# Altium footprint library BGA (1.5mm Pitch, Square1).PcbLib: 20 footprints (part 2 of 2)
Each footprint in its own frame and in the unit in brackets; x right, y up, seen from the top. Pads: shape width x height; smd on the part's side, far side on the other; paste and mask are expansions set on the pad; w line width, h text height; cw(c..) or ccw(c..) is an arc to the next point about the centre after c.
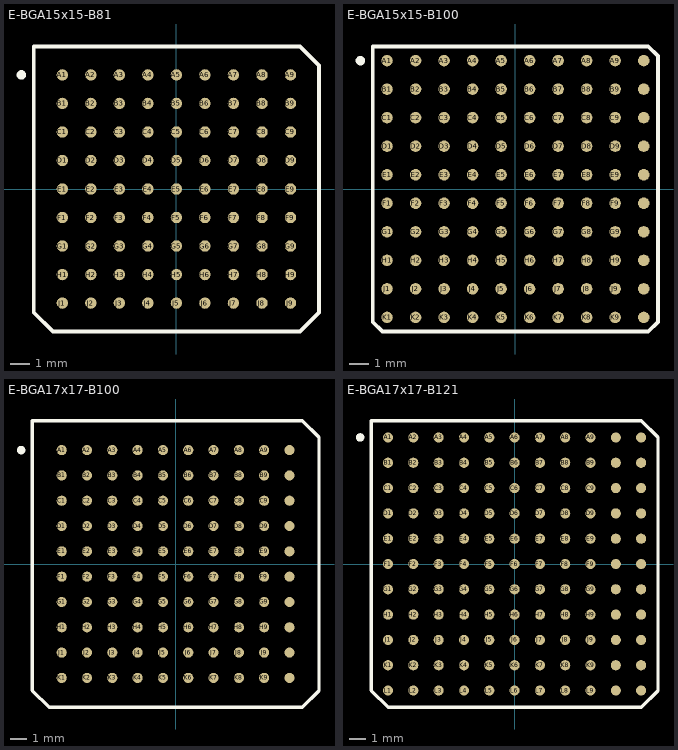
[diagram p1: the footprints below, top view; thin cyan lines are the x and y axes]

## E-BGA15x15-B81 [mm] "BGA; 81 Balls; Body 15 x 15 mm; Pitch 1.5 mm"
height 3.5
pads (81):
  round 0.6 smd: A1(-6,6) A2(-4.5,6) A3(-3,6) A4(-1.5,6) A5(0,6) A6(1.5,6) A7(3,6) A8(4.5,6) A9(6,6) B1(-6,4.5) B2(-4.5,4.5) B3(-3,4.5) B4(-1.5,4.5) B5(0,4.5) B6(1.5,4.5) B7(3,4.5) B8(4.5,4.5) B9(6,4.5) C1(-6,3) C2(-4.5,3) C3(-3,3) C4(-1.5,3) C5(0,3) C6(1.5,3) C7(3,3) C8(4.5,3) C9(6,3) D1(-6,1.5) D2(-4.5,1.5) D3(-3,1.5) D4(-1.5,1.5) D5(0,1.5) D6(1.5,1.5) D7(3,1.5) D8(4.5,1.5) D9(6,1.5) E1(-6,0) E2(-4.5,0) E3(-3,0) E4(-1.5,0) E5(0,0) E6(1.5,0) E7(3,0) E8(4.5,0) E9(6,0) F1(-6,-1.5) F2(-4.5,-1.5) F3(-3,-1.5) F4(-1.5,-1.5) F5(0,-1.5) F6(1.5,-1.5) F7(3,-1.5) F8(4.5,-1.5) F9(6,-1.5) G1(-6,-3) G2(-4.5,-3) G3(-3,-3) G4(-1.5,-3) G5(0,-3) G6(1.5,-3) G7(3,-3) G8(4.5,-3) G9(6,-3) H1(-6,-4.5) H2(-4.5,-4.5) H3(-3,-4.5) H4(-1.5,-4.5) H5(0,-4.5) H6(1.5,-4.5) H7(3,-4.5) H8(4.5,-4.5) H9(6,-4.5) J1(-6,-6) J2(-4.5,-6) J3(-3,-6) J4(-1.5,-6) J5(0,-6) J6(1.5,-6) J7(3,-6) J8(4.5,-6) J9(6,-6)
Top Overlay:
  circle w0.25: c-8.155,6 r0.125
  lines w0.2: -7.5,-6.5 -7.5,7.5 6.5,7.5 7.5,6.5 7.5,-6.5 6.5,-7.5 -6.5,-7.5 -7.5,-6.5

## E-BGA15x15-B100 [mm] "BGA; 100 Balls; Body 15 x 15 mm; Pitch 1.5 mm"
height 6
pads (100):
  round 0.6 smd: A1(-6.75,6.75) A2(-5.25,6.75) A3(-3.75,6.75) A4(-2.25,6.75) A5(-0.75,6.75) A6(0.75,6.75) A7(2.25,6.75) A8(3.75,6.75) A9(5.25,6.75) A10(6.75,6.75) B1(-6.75,5.25) B2(-5.25,5.25) B3(-3.75,5.25) B4(-2.25,5.25) B5(-0.75,5.25) B6(0.75,5.25) B7(2.25,5.25) B8(3.75,5.25) B9(5.25,5.25) B10(6.75,5.25) C1(-6.75,3.75) C2(-5.25,3.75) C3(-3.75,3.75) C4(-2.25,3.75) C5(-0.75,3.75) C6(0.75,3.75) C7(2.25,3.75) C8(3.75,3.75) C9(5.25,3.75) C10(6.75,3.75) D1(-6.75,2.25) D2(-5.25,2.25) D3(-3.75,2.25) D4(-2.25,2.25) D5(-0.75,2.25) D6(0.75,2.25) D7(2.25,2.25) D8(3.75,2.25) D9(5.25,2.25) D10(6.75,2.25) E1(-6.75,0.75) E2(-5.25,0.75) E3(-3.75,0.75) E4(-2.25,0.75) E5(-0.75,0.75) E6(0.75,0.75) E7(2.25,0.75) E8(3.75,0.75) E9(5.25,0.75) E10(6.75,0.75) F1(-6.75,-0.75) F2(-5.25,-0.75) F3(-3.75,-0.75) F4(-2.25,-0.75) F5(-0.75,-0.75) F6(0.75,-0.75) F7(2.25,-0.75) F8(3.75,-0.75) F9(5.25,-0.75) F10(6.75,-0.75) G1(-6.75,-2.25) G2(-5.25,-2.25) G3(-3.75,-2.25) G4(-2.25,-2.25) G5(-0.75,-2.25) G6(0.75,-2.25) G7(2.25,-2.25) G8(3.75,-2.25) G9(5.25,-2.25) G10(6.75,-2.25) H1(-6.75,-3.75) H2(-5.25,-3.75) H3(-3.75,-3.75) H4(-2.25,-3.75) H5(-0.75,-3.75) H6(0.75,-3.75) H7(2.25,-3.75) H8(3.75,-3.75) H9(5.25,-3.75) H10(6.75,-3.75) J1(-6.75,-5.25) J2(-5.25,-5.25) J3(-3.75,-5.25) J4(-2.25,-5.25) J5(-0.75,-5.25) J6(0.75,-5.25) J7(2.25,-5.25) J8(3.75,-5.25) J9(5.25,-5.25) J10(6.75,-5.25) K1(-6.75,-6.75) K2(-5.25,-6.75) K3(-3.75,-6.75) K4(-2.25,-6.75) K5(-0.75,-6.75) K6(0.75,-6.75) K7(2.25,-6.75) K8(3.75,-6.75) K9(5.25,-6.75) K10(6.75,-6.75)
Top Overlay:
  circle w0.25: c-8.155,6.75 r0.125
  lines w0.2: -7.5,-6.99 -7.5,7.5 6.99,7.5 7.5,6.99 7.5,-6.99 6.99,-7.5 -6.99,-7.5 -7.5,-6.99

## E-BGA17x17-B100 [mm] "BGA; 100 Balls; Body 17 x 17 mm; Pitch 1.5 mm"
height 3.5
pads (100):
  round 0.6 smd: A1(-6.75,6.75) A2(-5.25,6.75) A3(-3.75,6.75) A4(-2.25,6.75) A5(-0.75,6.75) A6(0.75,6.75) A7(2.25,6.75) A8(3.75,6.75) A9(5.25,6.75) A10(6.75,6.75) B1(-6.75,5.25) B2(-5.25,5.25) B3(-3.75,5.25) B4(-2.25,5.25) B5(-0.75,5.25) B6(0.75,5.25) B7(2.25,5.25) B8(3.75,5.25) B9(5.25,5.25) B10(6.75,5.25) C1(-6.75,3.75) C2(-5.25,3.75) C3(-3.75,3.75) C4(-2.25,3.75) C5(-0.75,3.75) C6(0.75,3.75) C7(2.25,3.75) C8(3.75,3.75) C9(5.25,3.75) C10(6.75,3.75) D1(-6.75,2.25) D2(-5.25,2.25) D3(-3.75,2.25) D4(-2.25,2.25) D5(-0.75,2.25) D6(0.75,2.25) D7(2.25,2.25) D8(3.75,2.25) D9(5.25,2.25) D10(6.75,2.25) E1(-6.75,0.75) E2(-5.25,0.75) E3(-3.75,0.75) E4(-2.25,0.75) E5(-0.75,0.75) E6(0.75,0.75) E7(2.25,0.75) E8(3.75,0.75) E9(5.25,0.75) E10(6.75,0.75) F1(-6.75,-0.75) F2(-5.25,-0.75) F3(-3.75,-0.75) F4(-2.25,-0.75) F5(-0.75,-0.75) F6(0.75,-0.75) F7(2.25,-0.75) F8(3.75,-0.75) F9(5.25,-0.75) F10(6.75,-0.75) G1(-6.75,-2.25) G2(-5.25,-2.25) G3(-3.75,-2.25) G4(-2.25,-2.25) G5(-0.75,-2.25) G6(0.75,-2.25) G7(2.25,-2.25) G8(3.75,-2.25) G9(5.25,-2.25) G10(6.75,-2.25) H1(-6.75,-3.75) H2(-5.25,-3.75) H3(-3.75,-3.75) H4(-2.25,-3.75) H5(-0.75,-3.75) H6(0.75,-3.75) H7(2.25,-3.75) H8(3.75,-3.75) H9(5.25,-3.75) H10(6.75,-3.75) J1(-6.75,-5.25) J2(-5.25,-5.25) J3(-3.75,-5.25) J4(-2.25,-5.25) J5(-0.75,-5.25) J6(0.75,-5.25) J7(2.25,-5.25) J8(3.75,-5.25) J9(5.25,-5.25) J10(6.75,-5.25) K1(-6.75,-6.75) K2(-5.25,-6.75) K3(-3.75,-6.75) K4(-2.25,-6.75) K5(-0.75,-6.75) K6(0.75,-6.75) K7(2.25,-6.75) K8(3.75,-6.75) K9(5.25,-6.75) K10(6.75,-6.75)
Top Overlay:
  circle w0.25: c-9.155,6.75 r0.125
  lines w0.2: -8.5,-7.5 -7.5,-8.5 7.5,-8.5 8.5,-7.5 8.5,7.5 7.5,8.5 -8.5,8.5 -8.5,-7.5

## E-BGA17x17-B121 [mm] "BGA; 121 Balls; Body 17 x 17 mm; Pitch 1.5 mm"
height 6
pads (121):
  round 0.6 smd: A1(-7.5,7.5) A2(-6,7.5) A3(-4.5,7.5) A4(-3,7.5) A5(-1.5,7.5) A6(0,7.5) A7(1.5,7.5) A8(3,7.5) A9(4.5,7.5) A10(6,7.5) A11(7.5,7.5) B1(-7.5,6) B2(-6,6) B3(-4.5,6) B4(-3,6) B5(-1.5,6) B6(0,6) B7(1.5,6) B8(3,6) B9(4.5,6) B10(6,6) B11(7.5,6) C1(-7.5,4.5) C2(-6,4.5) C3(-4.5,4.5) C4(-3,4.5) C5(-1.5,4.5) C6(0,4.5) C7(1.5,4.5) C8(3,4.5) C9(4.5,4.5) C10(6,4.5) C11(7.5,4.5) D1(-7.5,3) D2(-6,3) D3(-4.5,3) D4(-3,3) D5(-1.5,3) D6(0,3) D7(1.5,3) D8(3,3) D9(4.5,3) D10(6,3) D11(7.5,3) E1(-7.5,1.5) E2(-6,1.5) E3(-4.5,1.5) E4(-3,1.5) E5(-1.5,1.5) E6(0,1.5) E7(1.5,1.5) E8(3,1.5) E9(4.5,1.5) E10(6,1.5) E11(7.5,1.5) F1(-7.5,0) F2(-6,0) F3(-4.5,0) F4(-3,0) F5(-1.5,0) F6(0,0) F7(1.5,0) F8(3,0) F9(4.5,0) F10(6,0) F11(7.5,0) G1(-7.5,-1.5) G2(-6,-1.5) G3(-4.5,-1.5) G4(-3,-1.5) G5(-1.5,-1.5) G6(0,-1.5) G7(1.5,-1.5) G8(3,-1.5) G9(4.5,-1.5) G10(6,-1.5) G11(7.5,-1.5) H1(-7.5,-3) H2(-6,-3) H3(-4.5,-3) H4(-3,-3) H5(-1.5,-3) H6(0,-3) H7(1.5,-3) H8(3,-3) H9(4.5,-3) H10(6,-3) H11(7.5,-3) J1(-7.5,-4.5) J2(-6,-4.5) J3(-4.5,-4.5) J4(-3,-4.5) J5(-1.5,-4.5) J6(0,-4.5) J7(1.5,-4.5) J8(3,-4.5) J9(4.5,-4.5) J10(6,-4.5) J11(7.5,-4.5) K1(-7.5,-6) K2(-6,-6) K3(-4.5,-6) K4(-3,-6) K5(-1.5,-6) K6(0,-6) K7(1.5,-6) K8(3,-6) K9(4.5,-6) K10(6,-6) K11(7.5,-6) L1(-7.5,-7.5) L2(-6,-7.5) L3(-4.5,-7.5) L4(-3,-7.5) L5(-1.5,-7.5) L6(0,-7.5) L7(1.5,-7.5) L8(3,-7.5) L9(4.5,-7.5) L10(6,-7.5) L11(7.5,-7.5)
Top Overlay:
  circle w0.25: c-9.155,7.5 r0.125
  lines w0.2: -8.5,-7.5 -8.5,8.5 7.5,8.5 8.5,7.5 8.5,-7.5 7.5,-8.5 -7.5,-8.5 -8.5,-7.5